# Altium schematic symbol library Transformers.SchLib: 13 symbols
Pins are listed as number, name and electrical type; pins without a type are passive.

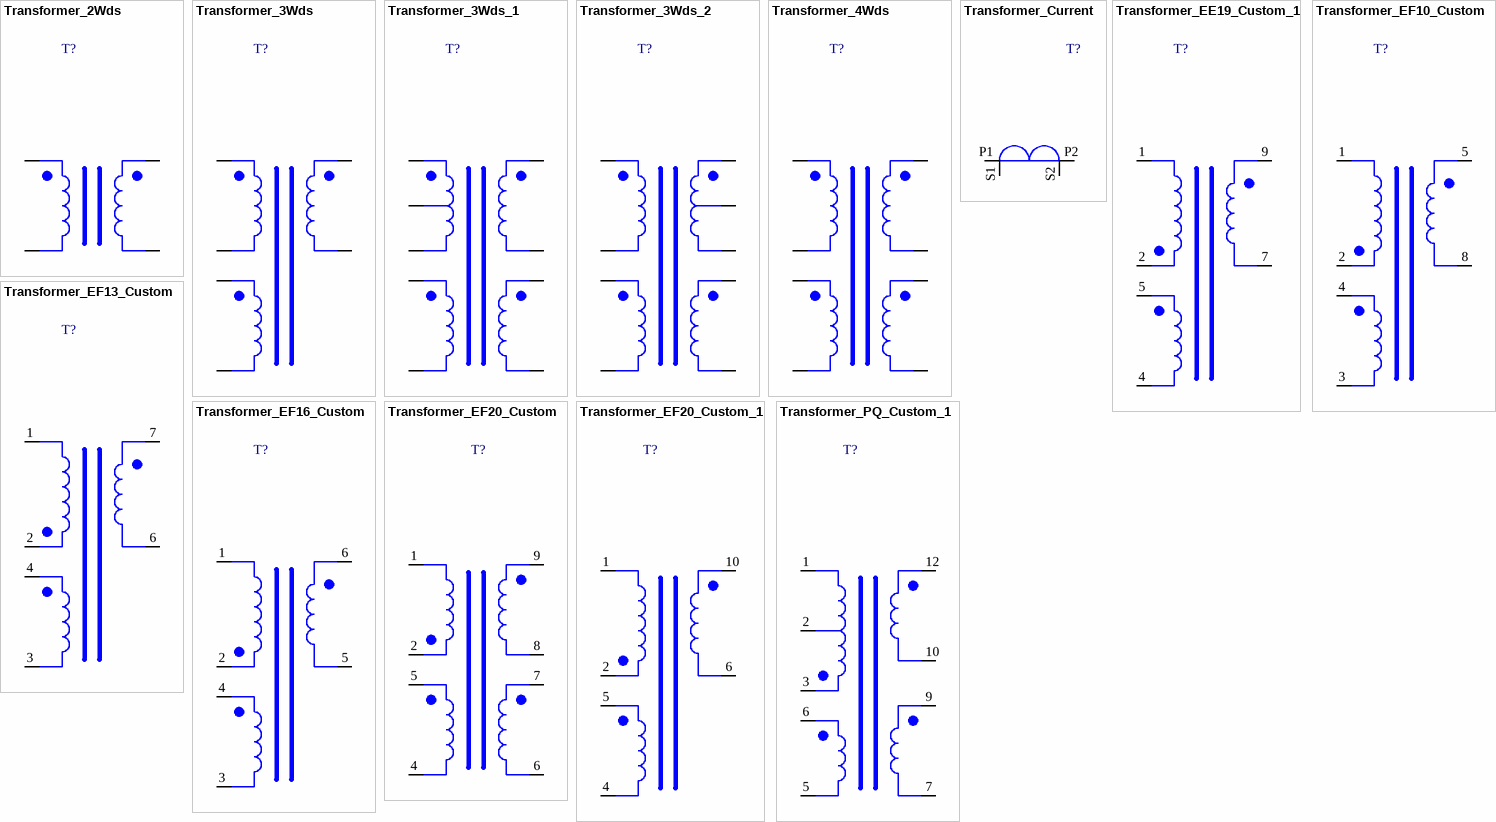
[diagram p0: symbols Transformer_2Wds to Transformer_PQ_Custom_1]

## Transformer_2Wds
designator T?
pins: A1, A2, B1, B2

## Transformer_3Wds
designator T?
pins: A1, A2, B1, B2, C1, C2

## Transformer_3Wds_1
designator T?
pins: A1, A2, A3, B1, B2, C1, C2, D1, D2

## Transformer_3Wds_2
designator T?
pins: A1, A3, B1, B2, C1, C2, C3, D1, D2

## Transformer_4Wds
designator T?
pins: A1, A2, B1, B2, C1, C2, D1, D2

## Transformer_Current
designator T?
pins: P1, P2, S1, S2

## Transformer_EE19_Custom_1
designator T?
pins: 1, 2, 4, 5, 7, 9

## Transformer_EF10_Custom
designator T?
pins: 1, 2, 3, 4, 5, 8

## Transformer_EF13_Custom
designator T?
pins: 1, 2, 3, 4, 6, 7

## Transformer_EF16_Custom
designator T?
pins: 1, 2, 3, 4, 5, 6

## Transformer_EF20_Custom
designator T?
pins: 1, 2, 4, 5, 6, 7, 8, 9

## Transformer_EF20_Custom_1
designator T?
pins: 1, 2, 4, 5, 6, 10

## Transformer_PQ_Custom_1
designator T?
pins: 1, 2, 3, 5, 6, 7, 9, 10, 12